# EAGLE library part SST25VF512-20-4C-SAE (library Birdhouse)
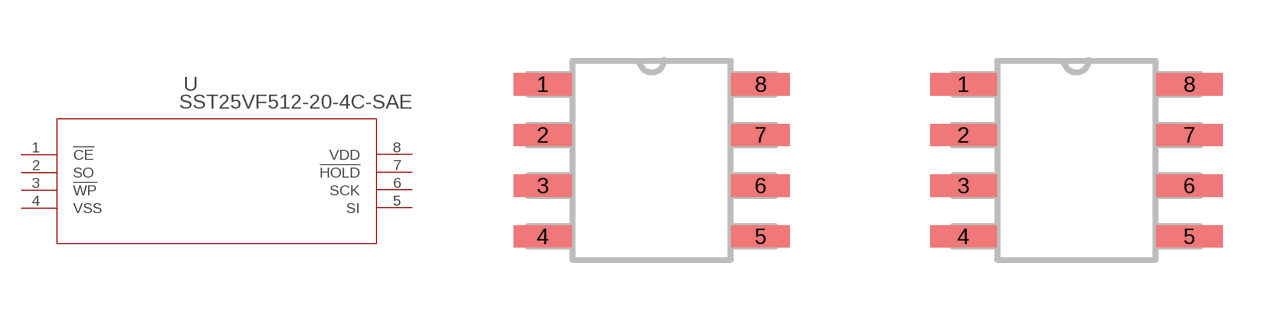
[diagram p14: symbol with the pads of SOIC8_SA_SST_MCH; footprints SOIC8_SA_SST_MCH, SOIC8_SA_SST_MCH-M]

Designator prefix U

## SST25VF512-20-4C-SAE (COPYRIGHT: Copyright (C) 2023 Ultra Librarian. All rights reserved.; MANUFACTURER_PART_NUMBER: SST25VF512-20-4C-SAE; MFR_NAME: Microchip)  [SOIC8_SA_SST_MCH]
1  !CE  in
2  SO  out
3  !WP  in
4  VSS  pwr
5  SI  in
6  SCK  in
7  !HOLD  in
8  VDD  pwr

## SST25VF512-20-4C-SAESOIC8_SA_SST_MCH-M (COPYRIGHT: Copyright (C) 2023 Ultra Librarian. All rights reserved.; MANUFACTURER_PART_NUMBER: SST25VF512-20-4C-SAE; MFR_NAME: Microchip)  [SOIC8_SA_SST_MCH-M]
Pads as for SOIC8_SA_SST_MCH

## SST25VF512-20-4C-SAESOIC8_SA_SST_MCH-L (COPYRIGHT: Copyright (C) 2023 Ultra Librarian. All rights reserved.; MANUFACTURER_PART_NUMBER: SST25VF512-20-4C-SAE; MFR_NAME: Microchip)  [SOIC8_SA_SST_MCH-L]
Pads as for SOIC8_SA_SST_MCH

## Footprint SOIC8_SA_SST_MCH (pad centres in mm)
smd 1.46 x 0.559: 1 -2.724,1.905; 2 -2.724,0.635; 3 -2.724,-0.635; 4 -2.724,-1.905; 5 2.724,-1.905; 6 2.724,-0.635; 7 2.724,0.635; 8 2.724,1.905

## Footprint SOIC8_SA_SST_MCH-M (pad centres in mm)
smd 1.664 x 0.559: 1 -2.826,1.905; 2 -2.826,0.635; 3 -2.826,-0.635; 4 -2.826,-1.905; 5 2.826,-1.905; 6 2.826,-0.635; 7 2.826,0.635; 8 2.826,1.905

## Footprint SOIC8_SA_SST_MCH-L (pad centres in mm)
smd 1.257 x 0.508: 1 -2.623,1.905; 2 -2.623,0.635; 3 -2.623,-0.635; 4 -2.623,-1.905; 5 2.623,-1.905; 6 2.623,-0.635; 7 2.623,0.635; 8 2.623,1.905